# EAGLE library part L6472 (library L6472LIB)
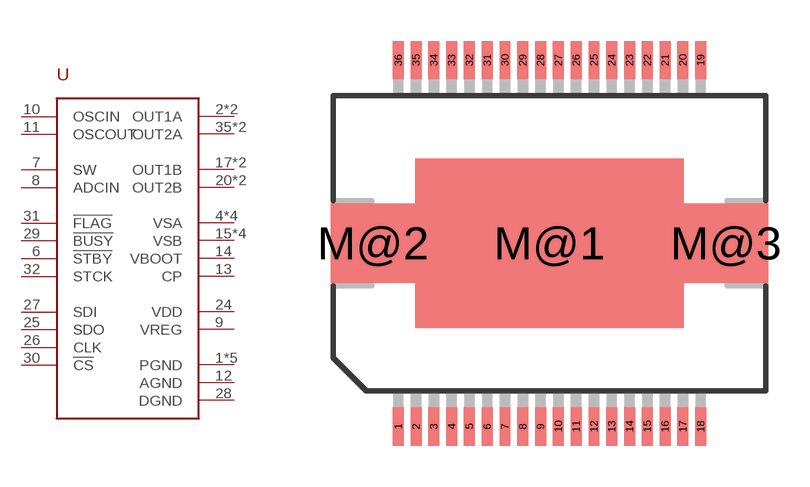
[diagram p0: symbol with the pads of PSO36; footprint PSO36]

Designator prefix -

## L6472  [PSO36]
1  PGND
2  OUT1A
3  OUT1A
4  VSA
5  VSA
6  !STBY
7  SW
8  ADCIN
9  VREG
10  OSCIN
11  OSCOUT
12  AGND
13  CP
14  VBOOT
15  VSB
16  VSB
17  OUT1B
18  OUT1B
19  PGND
20  OUT2B
21  OUT2B
22  VSB
23  VSB
24  VDD
25  SDO
26  CLK
27  SDI
28  DGND
29  !BUSY
30  !CS
31  !FLAG
32  STCK
33  VSA
34  VSA
35  OUT2A
36  OUT2A
M@1  PGND
M@2  PGND
M@3  PGND

## Footprint PSO36 (pad centres in mm)
36 LEADS POWER SMALL OUTLINE PACKAGE Source: http://www.st.com/stonline/books/pdf/docs/9426.pdf
smd 0.4 x 1.4: 1 -5.525,-6.7; 2 -4.875,-6.7; 3 -4.225,-6.7; 4 -3.575,-6.7; 5 -2.925,-6.7; 6 -2.275,-6.7; 7 -1.625,-6.7; 8 -0.975,-6.7; 9 -0.325,-6.7; 10 0.325,-6.7; 11 0.975,-6.7; 12 1.625,-6.7; 13 2.275,-6.7; 14 2.925,-6.7; 15 3.575,-6.7; 16 4.225,-6.7; 17 4.875,-6.7; 18 5.525,-6.7; 19 5.525,6.7; 20 4.875,6.7; 21 4.225,6.7; 22 3.575,6.7; 23 2.925,6.7; 24 2.275,6.7; 25 1.625,6.7; 26 0.975,6.7; 27 0.325,6.7; 28 -0.325,6.7; 29 -0.975,6.7; 30 -1.625,6.7; 31 -2.275,6.7; 32 -2.925,6.7; 33 -3.575,6.7; 34 -4.225,6.7; 35 -4.875,6.7; 36 -5.525,6.7
smd 9.8 x 6.2: M@1 0,0
smd 3.1 x 2.9: M@2 -6.45,0; M@3 6.45,0